# Altium footprint library CBB-81_0.047.PcbLib: 1 footprints
Each footprint in its own frame and in the unit in brackets; x right, y up, seen from the top. Pads: shape width x height; smd on the part's side, far side on the other; paste and mask are expansions set on the pad; w line width, h text height; cw(c..) or ccw(c..) is an arc to the next point about the centre after c.
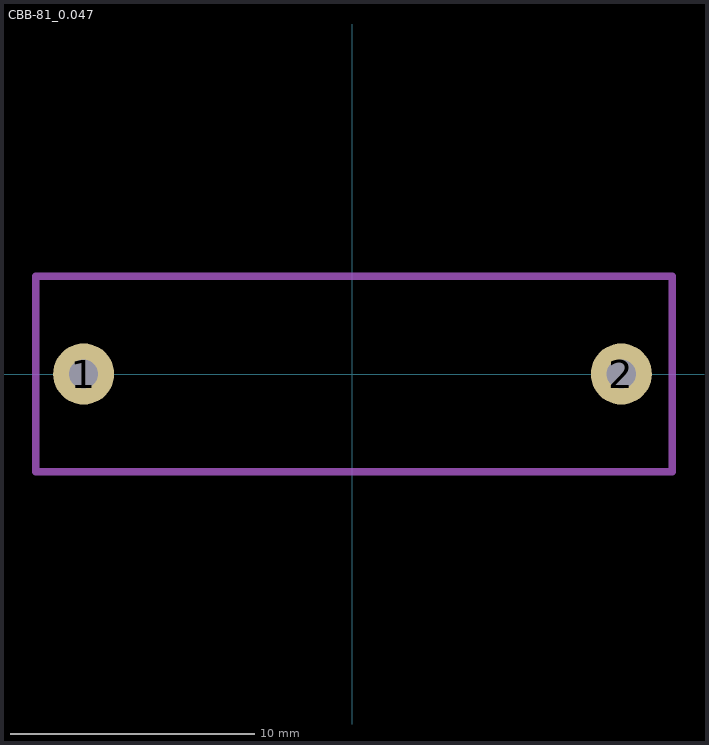
[diagram p0: the footprint, top view; thin cyan lines are the x and y axes]

## CBB-81_0.047 [mm]
pads (2):
  round 2.5 hole 1.2: 1(-11,0) 2(11,0)
Mechanical 13:
  lines w0.3: -12.954,-4 13.081,-4 13.081,4 -12.954,4 -12.954,-4
  text ".Designator" at -4.886,-0.551 h2.5
3D body: height 3, standoff -19, extent -13,-3.9 13,3.9